# EAGLE library part AS-ITM-00135 (library tinycircuits)
RES ARRAY 4 RES 330 OHM 0804
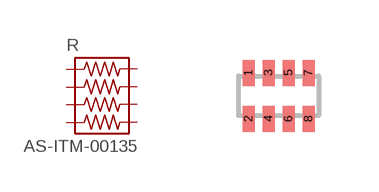
[diagram p57: symbol with the pads of 0402RPACK; footprint 0402RPACK]

Designator prefix R

## AS-ITM-00135 (PARTNO: AS-ITM-00135; VALUE: 330)  [0402RPACK]
1  1  pas
2  2  pas
3  3  pas
4  4  pas
5  5  pas
6  6  pas
7  7  pas
8  8  pas

## Footprint 0402RPACK (pad centres in mm)
smd 0.3 x 0.65: 1 -0.75,0.575; 2 -0.75,-0.575; 3 -0.25,0.575; 4 -0.25,-0.575; 5 0.25,0.575; 6 0.25,-0.575; 7 0.75,0.575; 8 0.75,-0.575